# Altium footprint library RA1206(4x0603).PcbLib: 1 footprints
Each footprint in its own frame and in the unit in brackets; x right, y up, seen from the top. Pads: shape width x height; smd on the part's side, far side on the other; paste and mask are expansions set on the pad; w line width, h text height; cw(c..) or ccw(c..) is an arc to the next point about the centre after c.
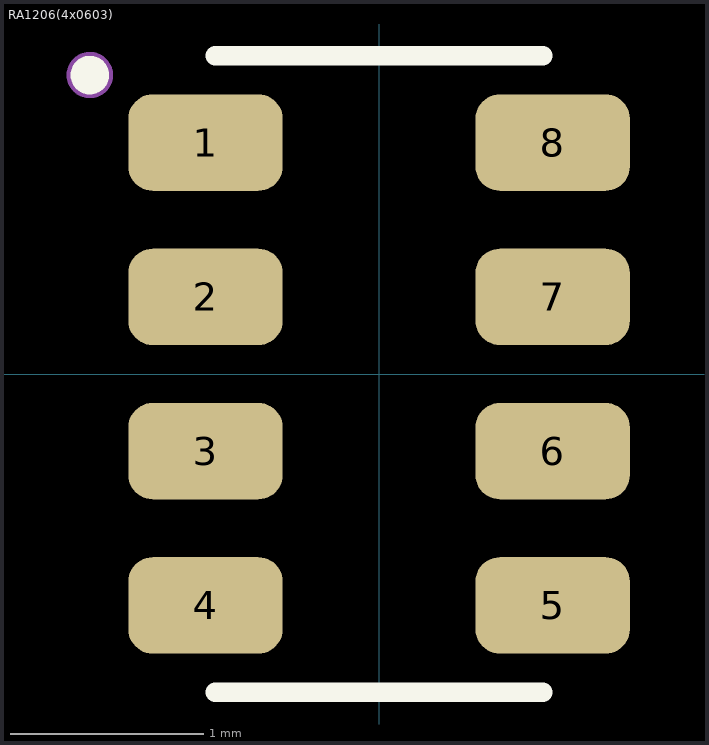
[diagram p0: the footprint, top view; thin cyan lines are the x and y axes]

## RA1206(4x0603) [mm]
pads (8):
  rrect50% 0.8x0.5 smd: 1(-0.9,1.2) 2(-0.9,0.4) 3(-0.9,-0.4) 4(-0.9,-1.2) 5(0.9,-1.2) 6(0.9,-0.4) 7(0.9,0.4) 8(0.9,1.2)
Top Overlay:
  circle w0.1: c-1.5,1.55 r0.05
  lines w0.1: -0.85,-1.65 0.85,-1.65 ; -0.85,1.65 0.85,1.65
Assembly Top:
  circle w0.12: c-1.5,1.55 r0.06
3D body "SMD R1206-4Way-Var2-1.STEP": height 0.5, standoff 0, extent -0.8,-1.6 0.8,1.6